# Altium schematic symbol library 43650-0415.SchLib: 1 symbol
Pins are listed as number, name and electrical type; pins without a type are passive.

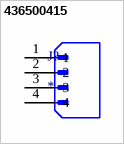
[diagram p0: symbol 436500415]

## 436500415
designator J?
MF: {'manufacturer': u'Molex'}; MP: 436500415; Price: None; Availability: Unavailable; Package: None; Value: *
footprint MOLEX_436500415
pins: 1, 2, 3, 4